# EAGLE library part 74LCX16244MTD (library Fairchild_By_element14_Batch_1)
Low Voltage 16-Bit Buffer/Line Driver
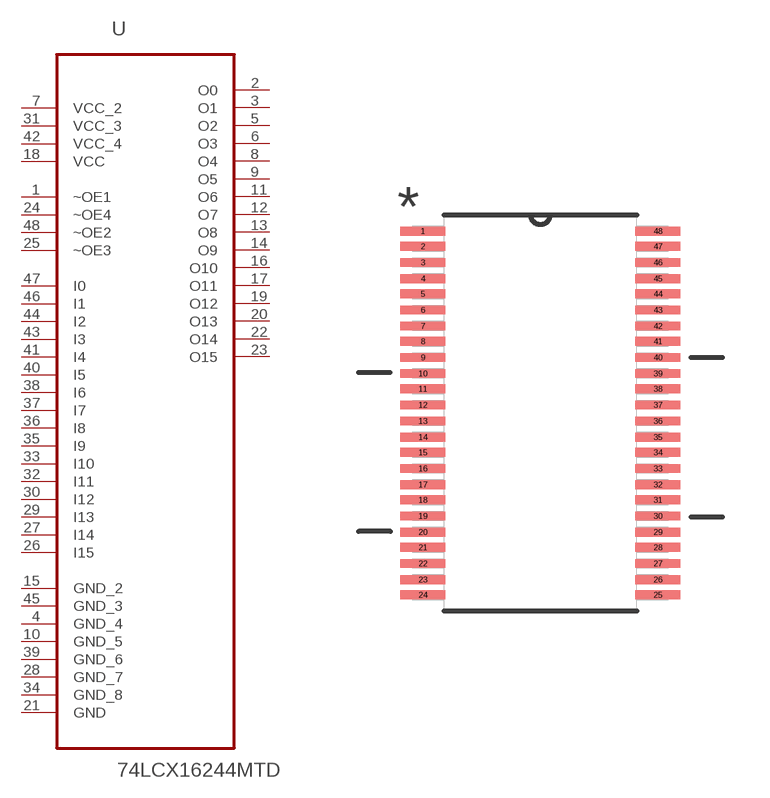
[diagram p84: symbol with the pads of SOP50P810X120-48N; footprint SOP50P810X120-48N]

Designator prefix U

## 74LCX16244MTD (MPN: 74LCX16244MTD; OC_FARNELL: 1467298; OC_NEWARK: 78K6292; PACKAGE: TSSOP-48; SUPPLIER: FAIRCHILD SEMICONDUCTOR)  [SOP50P810X120-48N]
1  ~OE1  in
2  O0  out
3  O1  out
4  GND_4  pas
5  O2  out
6  O3  out
7  VCC_2  pwr
8  O4  out
9  O5  out
10  GND_5  pas
11  O6  out
12  O7  out
13  O8  out
14  O9  out
15  GND_2  pas
16  O10  out
17  O11  out
18  VCC  pwr
19  O12  out
20  O13  out
21  GND  pas
22  O14  out
23  O15  out
24  ~OE4  in
25  ~OE3  out
26  I15  in
27  I14  in
28  GND_7  pas
29  I13  in
30  I12  in
31  VCC_3  pwr
32  I11  in
33  I10  in
34  GND_8  pas
35  I9  in
36  I8  in
37  I7  in
38  I6  in
39  GND_6  pas
40  I5  in
41  I4  in
42  VCC_4  pwr
43  I3  in
44  I2  in
45  GND_3  pas
46  I1  in
47  I0  in
48  ~OE2  in

## Footprint SOP50P810X120-48N (pad centres in mm)
smd 1.422 x 0.279: 1 -3.708,5.74; 2 -3.708,5.258; 3 -3.708,4.75; 4 -3.708,4.242; 5 -3.708,3.759; 6 -3.708,3.251; 7 -3.708,2.743; 8 -3.708,2.261; 9 -3.708,1.753; 10 -3.708,1.245; 11 -3.708,0.762; 12 -3.708,0.254; 13 -3.708,-0.254; 14 -3.708,-0.762; 15 -3.708,-1.245; 16 -3.708,-1.753; 17 -3.708,-2.261; 18 -3.708,-2.743; 19 -3.708,-3.251; 20 -3.708,-3.759; 21 -3.708,-4.242; 22 -3.708,-4.75; 23 -3.708,-5.258; 24 -3.708,-5.74; 25 3.708,-5.74; 26 3.708,-5.258; 27 3.708,-4.75; 28 3.708,-4.242; 29 3.708,-3.759; 30 3.708,-3.251; 31 3.708,-2.743; 32 3.708,-2.261; 33 3.708,-1.753; 34 3.708,-1.245; 35 3.708,-0.762; 36 3.708,-0.254; 37 3.708,0.254; 38 3.708,0.762; 39 3.708,1.245; 40 3.708,1.753; 41 3.708,2.261; 42 3.708,2.743; 43 3.708,3.251; 44 3.708,3.759; 45 3.708,4.242; 46 3.708,4.75; 47 3.708,5.258; 48 3.708,5.74